# EAGLE library part JP5Q (library jumper)
JUMPER
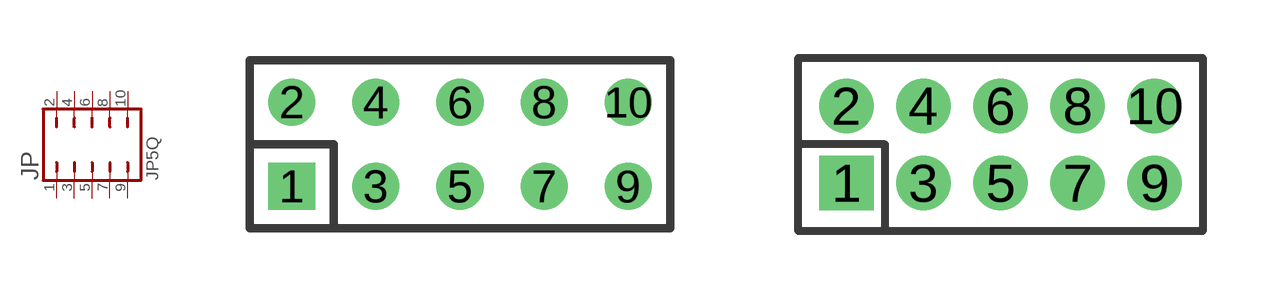
[diagram p10: symbol with the pads of JP5Q; footprints JP5Q, JP5QM]

Designator prefix JP

## JP5Q  [JP5Q]
1  1  pas
2  2  pas
3  3  pas
4  4  pas
5  5  pas
6  6  pas
7  7  pas
8  8  pas
9  9  pas
10  10  pas

## JP5QM  [JP5QM]
Pads as for JP5Q

## Footprint JP5Q (pad centres in mm)
JUMPER - 0.1" Pitch
drill 0.914 square: 1 -5.08,-1.27
drill 0.914: 2 -5.08,1.27; 3 -2.54,-1.27; 4 -2.54,1.27; 5 0,-1.27; 6 0,1.27; 7 2.54,-1.27; 8 2.54,1.27; 9 5.08,-1.27; 10 5.08,1.27

## Footprint JP5QM (pad centres in mm)
JUMPER - 2.00mm (.079") Pitch
drill 0.914 square: 1 -4,-1
drill 0.914: 2 -4,1; 3 -2,-1; 4 -2,1; 5 0,-1; 6 0,1; 7 2,-1; 8 2,1; 9 4,-1; 10 4,1